# Altium schematic symbol library myMISC.SchLib: 14 symbols
Pins are listed as number, name and electrical type; pins without a type are passive.

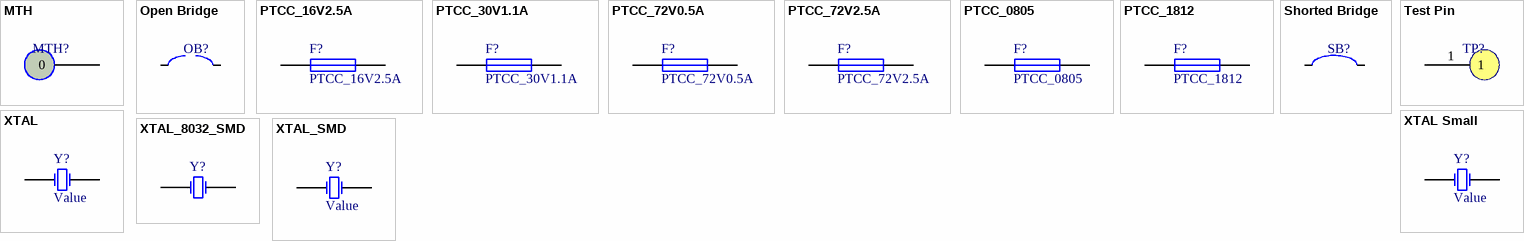
[diagram p0: symbols MTH to XTAL_SMD]

## MTH
designator MTH?  (value not drawn)
footprint MTH
pins: 0

## Open Bridge
designator OB?, comment [N/A]  (value not drawn)
footprint Open Bridge
pins: 1, 2

## PTCC_16V2.5A
designator F?
PTCC, Through Hole, 16V 2.5A; Published: 8-Jun-2000; LatestRevisionDate: 17-Jul-2002; LatestRevisionNote: Re-released for DXP Platform.; PackageReference: PIN-W2/E2.8; Publisher: Altium Limited
footprint PTCC_16V2.5A
pins: 1, 2

## PTCC_30V1.1A
designator F?
PTCC, Through Hole, 30V 1.1A; Published: 8-Jun-2000; LatestRevisionDate: 17-Jul-2002; LatestRevisionNote: Re-released for DXP Platform.; PackageReference: PIN-W2/E2.8; Publisher: Altium Limited
footprint PTCC_30V1.1A
pins: 1, 2

## PTCC_72V0.5A
designator F?
PTCC, Through Hole, 72V 0.5A; Published: 8-Jun-2000; LatestRevisionDate: 17-Jul-2002; LatestRevisionNote: Re-released for DXP Platform.; PackageReference: PIN-W2/E2.8; Publisher: Altium Limited
footprint PTCC_72V0.5A
pins: 1, 2

## PTCC_72V2.5A
designator F?
PTCC, Through Hole, 72V 2.5A; Published: 8-Jun-2000; LatestRevisionDate: 17-Jul-2002; LatestRevisionNote: Re-released for DXP Platform.; PackageReference: PIN-W2/E2.8; Publisher: Altium Limited
footprint PTCC_72V2.5A
pins: 1, 2

## PTCC_0805
designator F?
PTCC_0805, SMD; Published: 8-Jun-2000; LatestRevisionDate: 17-Jul-2002; LatestRevisionNote: Re-released for DXP Platform.; PackageReference: PIN-W2/E2.8; Publisher: Altium Limited
footprint PTCC_8085_SMD
pins: 1, 2

## PTCC_1812
designator F?
PTCC_1812, SMD; Published: 8-Jun-2000; LatestRevisionDate: 17-Jul-2002; LatestRevisionNote: Re-released for DXP Platform.; PackageReference: PIN-W2/E2.8; Publisher: Altium Limited
footprint PTCC_1812_SMD
pins: 1, 2

## Shorted Bridge
designator SB?, comment 0  (value not drawn)
footprint Shorted Bridge
pins: 1, 2

## Test Pin
designator TP?  (value not drawn)
footprint Test Pin
pins: 1

## XTAL
designator Y?, comment Value
Crystal Oscillator; Published: 8-Jun-2000; LatestRevisionDate: 17-Jul-2002; LatestRevisionNote: Re-released for DXP Platform.; PackageReference: R38; Publisher: Altium Limited
footprint XTAL
pins: 1 OSC1, 2 OSC2

## XTAL Small
designator Y?, comment Value
Crystal Oscillator, Small; Published: 8-Jun-2000; LatestRevisionDate: 17-Jul-2002; LatestRevisionNote: Re-released for DXP Platform.; PackageReference: R38; Publisher: Altium Limited
footprint XTAL Small
pins: 1 OSC1, 2 OSC2

## XTAL_8032_SMD
designator Y?, comment Value  (value not drawn)
Crystal, 8032, SMT; Published: 8-Jun-2000; LatestRevisionDate: 17-Jul-2002; LatestRevisionNote: Re-released for DXP Platform.; PackageReference: R38; Publisher: Altium Limited
footprint XTAL_8032
pins: 1 OSC1, 4 OSC2

## XTAL_SMD
designator Y?, comment Value
Crystal Oscillator; Published: 8-Jun-2000; LatestRevisionDate: 17-Jul-2002; LatestRevisionNote: Re-released for DXP Platform.; PackageReference: R38; Publisher: Altium Limited
footprint XTAL_SMD
pins: 1 OSC1, 2 OSC2